# Altium schematic symbol library 常用模块.SchLib: 6 symbols
Pins are listed as number, name and electrical type; pins without a type are passive.

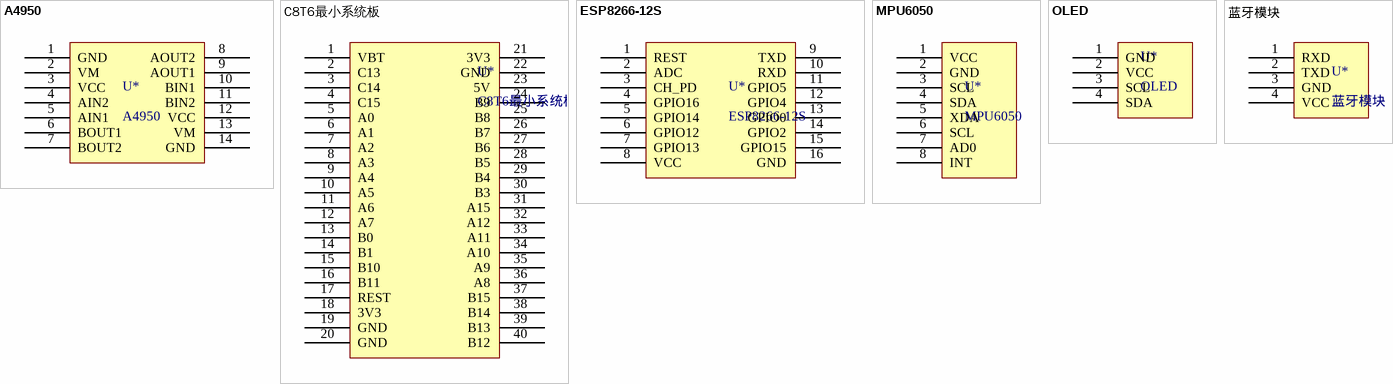
[diagram p0: symbols A4950 to 蓝牙模块]

## A4950
designator U*
footprint A4950
pins: 1 GND, 2 VM, 3 VCC, 4 AIN2, 5 AIN1, 6 BOUT1, 7 BOUT2, 8 AOUT2, 9 AOUT1, 10 BIN1, 11 BIN2, 12 VCC, 13 VM, 14 GND

## C8T6最小系统板
designator U*
footprint C8T6最小系统板
pins: 1 VBT, 2 C13, 3 C14, 4 C15, 5 A0, 6 A1, 7 A2, 8 A3, 9 A4, 10 A5, 11 A6, 12 A7, 13 B0, 14 B1, 15 B10, 16 B11, 17 REST, 18 3V3, 19 GND, 20 GND, 21 3V3, 22 GND, 23 5V, 24 B9, 25 B8, 26 B7, 27 B6, 28 B5, 29 B4, 30 B3, 31 A15, 32 A12, 33 A11, 34 A10, 35 A9, 36 A8, 37 B15, 38 B14, 39 B13, 40 B12

## ESP8266-12S
designator U*
footprint ESP8266-12S
pins: 1 REST, 2 ADC, 3 CH_PD, 4 GPIO16, 5 GPIO14, 6 GPIO12, 7 GPIO13, 8 VCC, 9 TXD, 10 RXD, 11 GPIO5, 12 GPIO4, 13 GPIO0, 14 GPIO2, 15 GPIO15, 16 GND

## MPU6050
designator U*
footprint MPU6050
pins: 1 VCC, 2 GND, 3 SCL, 4 SDA, 5 XDA, 6 SCL, 7 AD0, 8 INT

## OLED
designator U*
footprint OLED
pins: 1 GND, 2 VCC, 3 SCL, 4 SDA

## 蓝牙模块
designator U*
四线蓝牙模块
footprint 蓝牙模块
pins: 1 RXD, 2 TXD, 3 GND, 4 VCC